# EAGLE library part 52601-G10-8TLF (library con-custom)
connector Source: Datasheet <https://www.mouser.cn/datasheet/2/18/52601-1362837.pdf>
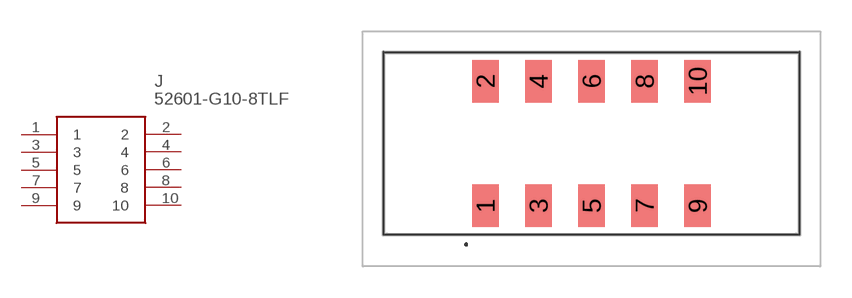
[diagram p1: symbol with the pads of 52601G108TLF; footprint 52601G108TLF]

Designator prefix J

## 52601-G10-8TLF (DESCRIPTION: connector; HEIGHT: 9.52mm; MANUFACTURER_NAME: Amphenol; MANUFACTURER_PART_NUMBER: 52601-G10-8TLF; MOUSER_PART_NUMBER: 649-52601-G10-8TLF; MOUSER_PRICE-STOCK: https://www.mouser.co.uk/ProductDetail/Amphenol-FCI/52601-G10-8TLF?qs=iiM6sTJtPEe8A16Qv5fDOg%3D%3D)  [52601G108TLF]
1  1
2  2
3  3
4  4
5  5
6  6
7  7
8  8
9  9
10  10

## Footprint 52601G108TLF (pad centres in mm)
52601-G10-8TLF-1
smd 1.27 x 2.03: 1 -5.08,-2.985; 2 -5.08,2.985; 3 -2.54,-2.985; 4 -2.54,2.985; 5 0,-2.985; 6 0,2.985; 7 2.54,-2.985; 8 2.54,2.985; 9 5.08,-2.985; 10 5.08,2.985